# Altium schematic symbol library SP720ABTG.SchLib: 1 symbol
Pins are listed as number, name and electrical type; pins without a type are passive.

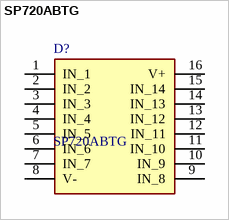
[diagram p0: symbol SP720ABTG]

## SP720ABTG
designator D?
LITTELFUSE - SP720ABTG - DIODE, TVS, 14CH, 30V, SOIC16; Geometry.Height: 1.75mm; Mouser Part Number: 576-SP720ABTG; Mouser Price/Stock: https://www.mouser.co.uk/ProductDetail/Littelfuse/SP720ABTG?qs=ODlIKnK5hgf4p%2FGWp9TOCQ%3D%3D; Manufacturer_Name: LITTELFUSE; Manufacturer_Part_Number: SP720ABTG; Datasheet Link: http://www.littelfuse.com/~/media/electronics/datasheets/tvs_diode_arrays/littelfuse_tvs_diode_array_sp720_datasheet.pdf.pdf
footprint SOIC127P600X175-16N
pins: 1 IN_1, 2 IN_2, 3 IN_3, 4 IN_4, 5 IN_5, 6 IN_6, 7 IN_7, 8 V-, 9 IN_8, 10 IN_9, 11 IN_10, 12 IN_11, 13 IN_12, 14 IN_13, 15 IN_14, 16 V+